# Altium footprint library 4.00mm2x10.PcbLib: 16 footprints
Each footprint in its own frame and in the unit in brackets; x right, y up, seen from the top. Pads: shape width x height; smd on the part's side, far side on the other; paste and mask are expansions set on the pad; w line width, h text height; cw(c..) or ccw(c..) is an arc to the next point about the centre after c.
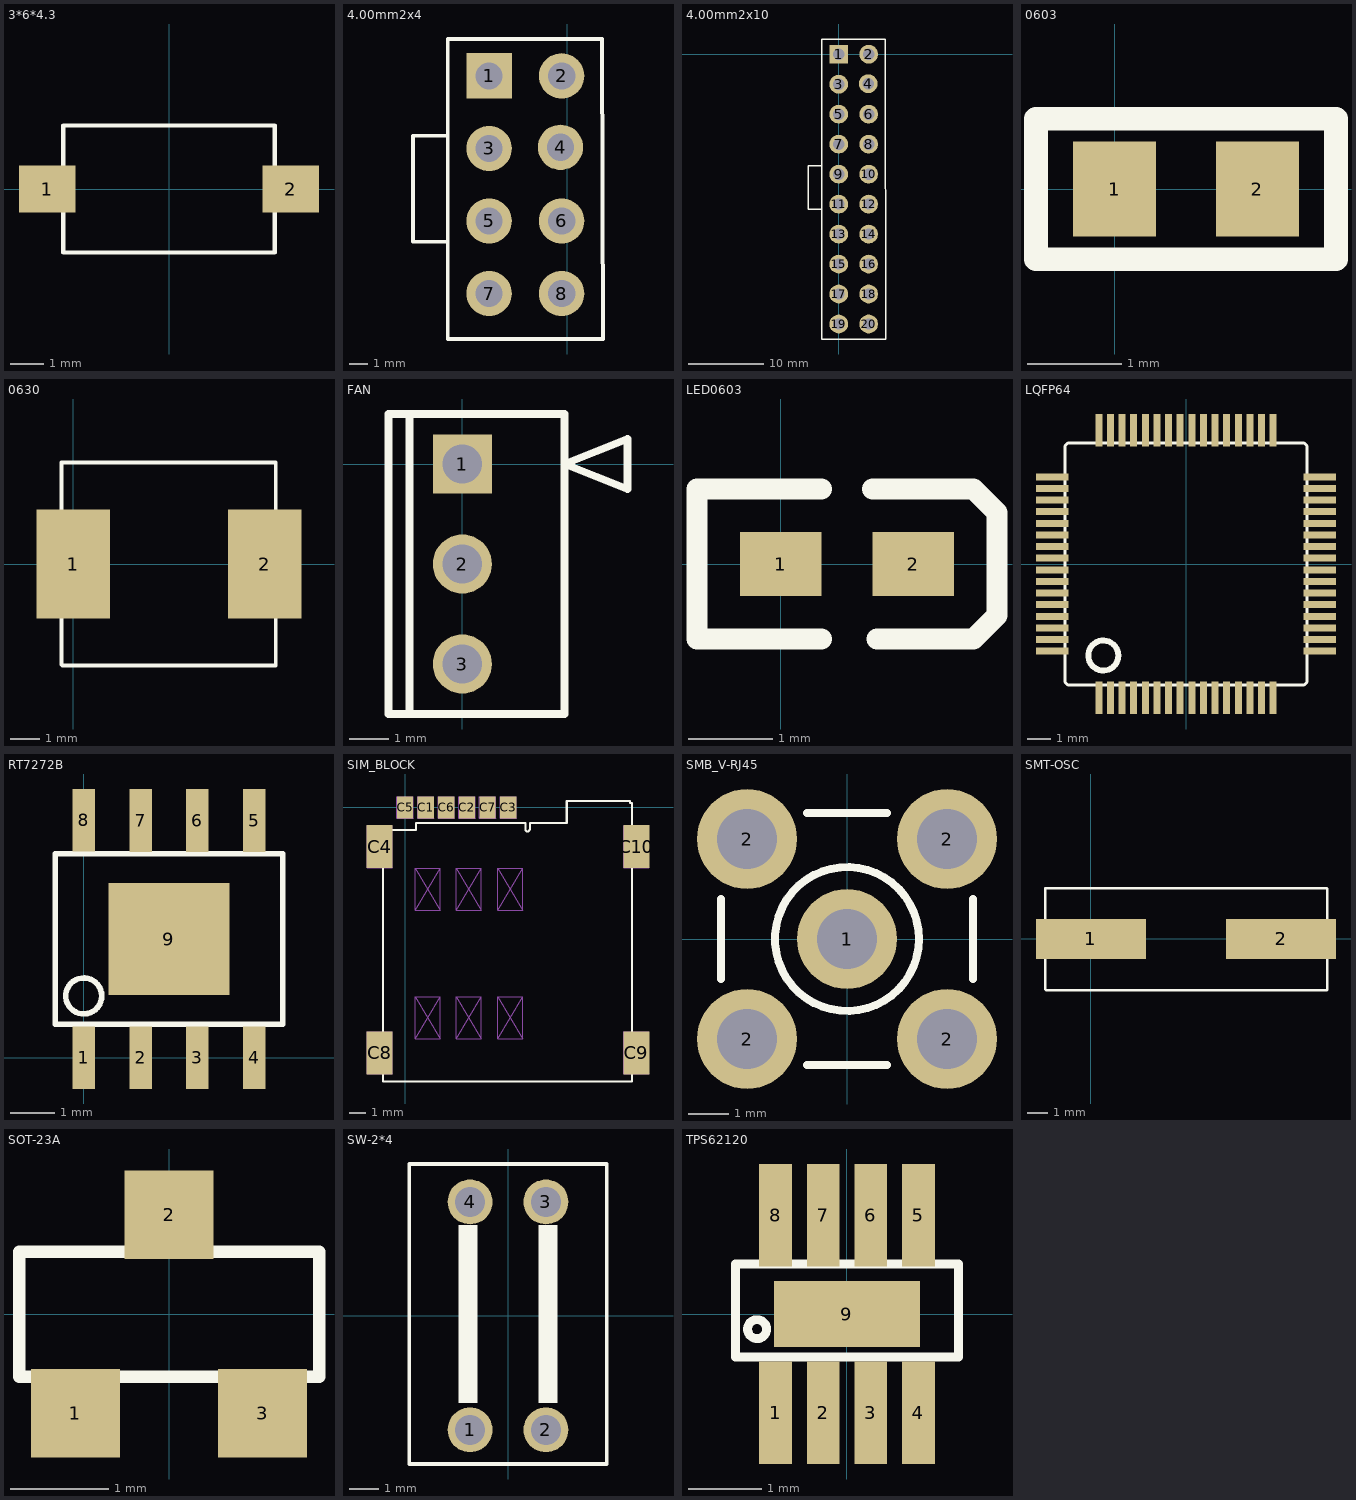
[diagram p0: the footprints below, top view; thin cyan lines are the x and y axes]

## 3*6*4.3 [mm]
pads (2):
  rect 1.7x1.4 smd: 1(-3.65,0) 2(3.65,0)
Top Overlay:
  lines w0.127: -3.175,-1.905 -3.175,1.905 3.175,1.905 3.175,-1.905 -3.175,-1.905

## 4.00mm2x4 [mm]
pads (8):
  rect 2.5x2.5 hole 1.5: 1(-4.318,29.21)
  round 2.5 hole 1.5: 2(-0.318,29.21) 3(-4.318,25.21) 4(-0.381,25.273) 5(-4.318,21.21) 6(-0.318,21.21) 7(-4.318,17.21) 8(-0.318,17.21)
Top Overlay:
  lines w0.2: -6.731,20.066 -8.509,20.066 -8.509,25.908 -6.731,25.908 ; -6.604,31.242 1.905,31.242 1.958,14.705 -6.594,14.705 -6.604,31.242

## 4.00mm2x10 [mm]
pads (20):
  rect 2.5x2.5 hole 1.5: 1(0,0)
  round 2.5 hole 1.5: 2(4,0) 3(0,-4) 4(3.937,-3.937) 5(0,-8) 6(4,-8) 7(0,-12) 8(4,-12) 9(0,-16) 10(4,-16) 11(0,-20) 12(4,-20) 13(0,-24) 14(4,-24) 15(0,-28) 16(4,-28) 17(0,-32) 18(4,-32) 19(0,-36) 20(4,-36)
Top Overlay:
  lines w0.2: -2.286,-20.701 -4.064,-20.701 -4.064,-14.859 -2.286,-14.859 ; -2.286,2.032 -2.276,-38 6.276,-38 6.223,2.032 -2.286,2.032

## 0603 [mil]
pads (2):
  rect 35x40 smd: 1(0,0) 2(60,0)
Top Overlay:
  lines w10: 10,-29.53 92.99,-29.53 92.99,29.53 10,29.53 ; 18,-29.53 -32.99,-29.53 -32.99,29.53 18,29.53

## 0630 [mm]
pads (2):
  rect 2.5x3.7 smd: 1(0,0) 2(6.5,0)
Top Overlay:
  lines w0.127: -0.408,-3.429 -0.408,3.454 6.882,3.454 6.882,-3.454 -0.382,-3.454

## FAN [mm]
pads (3):
  rect 1.5x1.5 hole 1: 1(0,0)
  round 1.5 hole 1: 2(0,-2.54) 3(0,-5.08)
Top Overlay:
  lines w0.2: -1.344,-6.35 -1.344,1.27 ; -1.871,-6.35 2.593,-6.35 2.593,1.27 -1.871,1.27 -1.871,-6.35 ; 2.593,0 4.191,0.635 4.191,-0.635 2.593,0

## LED0603 [mil]
pads (2):
  rect 38x30 smd: 1(0,0) 2(62,0)
Top Overlay:
  lines w10: 19,-35 -39,-35 -39,35 19,35 ; 43,35 90,35 101,24 101,-24 90,-35 45,-35

## LQFP64 [mm]
pads (64):
  rect 0.3x1.4 smd: 1(-3.75,-5.75) 2(-3.25,-5.75) 3(-2.75,-5.75) 4(-2.25,-5.75) 5(-1.75,-5.75) 6(-1.25,-5.75) 7(-0.75,-5.75) 8(-0.25,-5.75) 9(0.25,-5.75) 10(0.75,-5.75) 11(1.25,-5.75) 12(1.75,-5.75) 13(2.25,-5.75) 14(2.75,-5.75) 15(3.25,-5.75) 16(3.75,-5.75) 33(3.75,5.75) 34(3.25,5.75) 35(2.75,5.75) 36(2.25,5.75) 37(1.75,5.75) 38(1.25,5.75) 39(0.75,5.75) 40(0.25,5.75) 41(-0.25,5.75) 42(-0.75,5.75) 43(-1.25,5.75) 44(-1.75,5.75) 45(-2.25,5.75) 46(-2.75,5.75) 47(-3.25,5.75) 48(-3.75,5.75)
  rect 1.4x0.3 smd: 17(5.75,-3.75) 18(5.75,-3.25) 19(5.75,-2.75) 20(5.75,-2.25) 21(5.75,-1.75) 22(5.75,-1.25) 23(5.75,-0.75) 24(5.75,-0.25) 25(5.75,0.25) 26(5.75,0.75) 27(5.75,1.25) 28(5.75,1.75) 29(5.75,2.25) 30(5.75,2.75) 31(5.75,3.25) 32(5.75,3.75) 49(-5.75,3.75) 50(-5.75,3.25) 51(-5.75,2.75) 52(-5.75,2.25) 53(-5.75,1.75) 54(-5.75,1.25) 55(-5.75,0.75) 56(-5.75,0.25) 57(-5.75,-0.25) 58(-5.75,-0.75) 59(-5.75,-1.25) 60(-5.75,-1.75) 61(-5.75,-2.25) 62(-5.75,-2.75) 63(-5.75,-3.25) 64(-5.75,-3.75)
Top Overlay:
  circle w0.254: c-3.556,-3.937 r0.648
  lines w0.127: -5.207,-5.08 -5.08,-5.207 5.08,-5.207 5.207,-5.08 5.207,5.08 5.08,5.207 -5.08,5.207 -5.207,5.08 -5.207,-5.08

## RJ45 [mm]

## RT7272B [mm]
pads (9):
  rect 0.5x1.4 smd: 1(0,0) 2(1.27,0) 3(2.54,0) 4(3.81,0) 5(3.81,5.3) 6(2.54,5.3) 7(1.27,5.3) 8(0,5.304)
  rect 2.7x2.5 smd: 9(1.905,2.65)
Top Overlay:
  circle w0.127: c0,1.38 r0.402
  lines w0.127: -0.635,0.745 -0.635,4.555 4.445,4.555 4.445,0.745 -0.635,0.745

## SIM_BLOCK [mm]
pads (10):
  rect 1x1.35 smd: C1(1.27,0) C2(3.81,0) C3(6.35,0) C5(0,0) C6(2.54,0) C7(5.08,0)
  rect 1.6x2.65 smd: C4(-1.575,-2.413) C8(-1.575,-15.113) C9(14.249,-15.113) C10(14.249,-2.413)
Top Overlay:
  lines w0.127: -1.793,-16.155 -1.368,-16.155 -1.368,-16.872 13.961,-16.872 13.961,-16.155 14.386,-16.155 14.386,-14.052 13.961,-14.052 13.961,-3.478 14.386,-3.478 14.386,-1.375 13.961,-1.375 13.961,0.285 13.855,0.285 13.855,0.411 9.954,0.411 9.954,-0.965 7.68,-0.965 7.68,-1.337 cw(c7.542,-1.337) 7.404,-1.337 7.404,-0.965 0.668,-0.965 0.668,-1.375 -1.793,-1.375 -1.793,-3.478 -1.368,-3.478 -1.368,-14.052 -1.793,-14.052 -1.793,-16.155
Mechanical 1:
  lines w0.013: -2.335,-16.405 -0.785,-13.805 ; -2.335,-16.405 -2.335,-13.805 ; -2.335,-16.405 -0.785,-16.405 ; -2.335,-13.805 -0.785,-16.405 ; -2.335,-13.805 -0.785,-13.805 ; -2.335,-3.725 -0.785,-1.125 ; -2.335,-3.725 -2.335,-1.125 ; -2.335,-3.725 -0.785,-3.725 ; -2.335,-1.125 -0.785,-3.725 ; -2.335,-1.125 -0.785,-1.125 ; -0.785,-16.405 -0.785,-13.805 ; -0.785,-3.725 -0.785,-1.125 ; -0.5,-0.675 0.5,0.675 ; -0.5,-0.675 -0.5,0.675 ; -0.5,-0.675 0.5,-0.675 ; -0.5,0.675 0.5,-0.675 ; -0.5,0.675 0.5,0.675 ; 0.5,-0.675 0.5,0.675 ; 0.615,-14.255 2.165,-11.655 ; 0.615,-14.255 0.615,-11.655 ; 0.615,-14.255 2.165,-14.255 ; 0.615,-11.655 2.165,-14.255 ; 0.615,-11.655 2.165,-11.655 ; 0.615,-6.335 2.165,-3.735 ; 0.615,-6.335 0.615,-3.735 ; 0.615,-6.335 2.165,-6.335 ; 0.615,-3.735 2.165,-6.335 ; 0.615,-3.735 2.165,-3.735 ; 0.77,-0.675 1.77,0.675 ; 0.77,-0.675 0.77,0.675 ; 0.77,-0.675 1.77,-0.675 ; 0.77,0.675 1.77,-0.675 ; 0.77,0.675 1.77,0.675 ; 1.77,-0.675 1.77,0.675 ; 2.04,-0.675 3.04,0.675 ; 2.04,-0.675 2.04,0.675 ; 2.04,-0.675 3.04,-0.675 ; 2.04,0.675 3.04,-0.675 ; 2.04,0.675 3.04,0.675 ; 2.165,-14.255 2.165,-11.655 ; 2.165,-6.335 2.165,-3.735 ; 3.04,-0.675 3.04,0.675 ; 3.155,-14.255 4.705,-11.655 ; 3.155,-14.255 3.155,-11.655 ; 3.155,-14.255 4.705,-14.255 ; 3.155,-11.655 4.705,-14.255 ; 3.155,-11.655 4.705,-11.655 ; 3.155,-6.335 4.705,-3.735 ; 3.155,-6.335 3.155,-3.735 ; 3.155,-6.335 4.705,-6.335 ; 3.155,-3.735 4.705,-6.335 ; 3.155,-3.735 4.705,-3.735 ; 3.31,-0.675 4.31,0.675 ; 3.31,-0.675 3.31,0.675 ; 3.31,-0.675 4.31,-0.675 ; 3.31,0.675 4.31,-0.675 ; 3.31,0.675 4.31,0.675 ; 4.31,-0.675 4.31,0.675 ; 4.58,-0.675 5.58,0.675 ; 4.58,-0.675 4.58,0.675 ; 4.58,-0.675 5.58,-0.675 ; 4.58,0.675 5.58,-0.675 ; 4.58,0.675 5.58,0.675 ; 4.705,-14.255 4.705,-11.655 ; 4.705,-6.335 4.705,-3.735 ; 5.58,-0.675 5.58,0.675 ; 5.695,-14.255 7.245,-11.655 ; 5.695,-14.255 5.695,-11.655 ; 5.695,-14.255 7.245,-14.255 ; 5.695,-11.655 7.245,-14.255 ; 5.695,-11.655 7.245,-11.655 ; 5.695,-6.335 7.245,-3.735 ; 5.695,-6.335 5.695,-3.735 ; 5.695,-6.335 7.245,-6.335 ; 5.695,-3.735 7.245,-6.335 ; 5.695,-3.735 7.245,-3.735 ; 5.85,-0.675 6.85,0.675 ; 5.85,-0.675 5.85,0.675 ; 5.85,-0.675 6.85,-0.675 ; 5.85,0.675 6.85,-0.675 ; 5.85,0.675 6.85,0.675 ; 6.85,-0.675 6.85,0.675 ; 7.245,-14.255 7.245,-11.655 ; 7.245,-6.335 7.245,-3.735 ; 13.465,-16.405 15.015,-13.805 ; 13.465,-16.405 13.465,-13.805 ; 13.465,-16.405 15.015,-16.405 ; 13.465,-13.805 15.015,-16.405 ; 13.465,-13.805 15.015,-13.805 ; 13.465,-3.725 15.015,-1.125 ; 13.465,-3.725 13.465,-1.125 ; 13.465,-3.725 15.015,-3.725 ; 13.465,-1.125 15.015,-3.725 ; 13.465,-1.125 15.015,-1.125 ; 15.015,-16.405 15.015,-13.805 ; 15.015,-3.725 15.015,-1.125

## SMB_V-RJ45 [mm] "Connector; SMB Straight"
height 1.2
pads (5):
  round 2.5 hole 1.5: 1(0,0) 2(-2.5,-2.5) 2(-2.5,2.5) 2(2.5,-2.5) 2(2.5,2.5)
Top Overlay:
  circle w0.2: c0,0 r1.8
  lines w0.2: -3.15,-1 -3.15,1 ; -1,-3.15 1,-3.15 ; -1,3.15 1,3.15 ; 3.15,-1 3.15,1
Mechanical 1:
  circle w0.025: c0,0 r0.2
  circle w0.025: c0,0 r1.05
  circle w0.025: c0,0 r1.8

## SMT-OSC [mm]
pads (2):
  rect 5.5x2 smd: 1(0,0) 2(9.5,0)
Top Overlay:
  lines w0.127: -2.286,-2.515 -2.286,2.54 11.786,2.54 11.811,2.515 11.811,-2.54 11.786,-2.565 -2.235,-2.565 -2.26,-2.54

## SOT-23A [mm]
pads (3):
  rect 0.9x0.9 smd: 1(-0.95,-1.01) 2(0,1.01) 3(0.95,-1.01)
Top Overlay:
  lines w0.127: -1.524,-0.635 -1.524,0.635 1.524,0.635 1.524,-0.635 -1.524,-0.635

## SW-2*4 [mm]
pads (4):
  round 1.5 hole 1: 1(-1.27,-3.81) 2(1.27,-3.81) 3(1.27,3.81) 4(-1.27,3.81)
Top Overlay:
  rectangle: -1.651,-2.921 -1.016,3.048
  rectangle: 1.016,-2.921 1.651,3.048
  lines w0.127: -3.302,-4.953 3.302,-4.953 3.302,5.08 -3.302,5.08 -3.302,-4.953

## TPS62120 [mm]
pads (9):
  rect 0.45x1.4 smd: 1(-0.975,-1.35) 2(-0.325,-1.35) 3(0.325,-1.35) 4(0.975,-1.35) 5(0.975,1.35) 6(0.325,1.35) 7(-0.325,1.35) 8(-0.975,1.35)
  rect 2x0.9 smd: 9(0,0)
Top Overlay:
  circle w0.12: c-1.229,-0.207 r0.13
  lines w0.127: -1.524,-0.588 -1.524,0.682 1.524,0.682 1.524,-0.588 -1.524,-0.588